# EAGLE library part PROGHEADER (library teensylu)
JUMPER
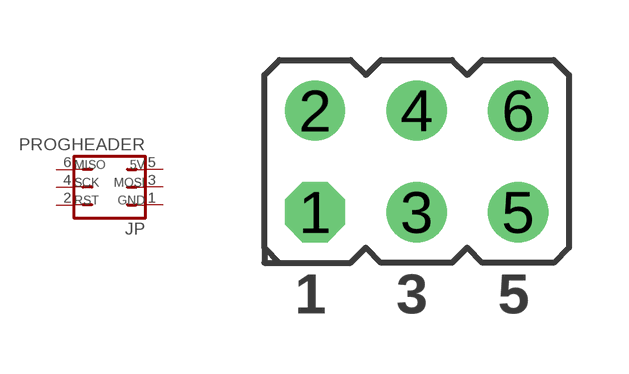
[diagram p6: symbol with the pads of ISP; footprint ISP]

Designator prefix JP

## PROGHEADER  [ISP]
1  1  pas
2  2  pas
3  3  pas
4  4  pas
5  5  pas
6  6  pas

## Footprint ISP (pad centres in mm)
JUMPER
drill 1 octagon: 1 -2.54,-1.27
drill 1: 2 -2.54,1.27; 3 0,-1.27; 4 0,1.27; 5 2.54,-1.27; 6 2.54,1.27